# Altium schematic symbol library SCH - DRIVER - LED - TI TLC59208F_PW_16.SchLib: 1 symbol
Pins are listed as number, name and electrical type; pins without a type are passive.

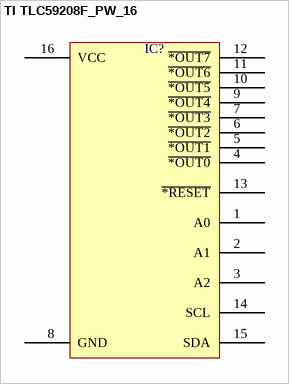
[diagram p0: symbol TI TLC59208F_PW_16]

## TI TLC59208F_PW_16
designator IC?  (value not drawn)
pins: 1 A0, 2 A1, 3 A2, 4 ~{*OUT0}, 5 ~{*OUT1}, 6 ~{*OUT2}, 7 ~{*OUT3}, 8 GND, 9 ~{*OUT4}, 10 ~{*OUT5}, 11 ~{*OUT6}, 12 ~{*OUT7}, 13 ~{*RESET}, 14 SCL, 15 SDA, 16 VCC